# Altium schematic symbol library Connectors.SchLib: 57 symbols
Pins are listed as number, name and electrical type; pins without a type are passive.

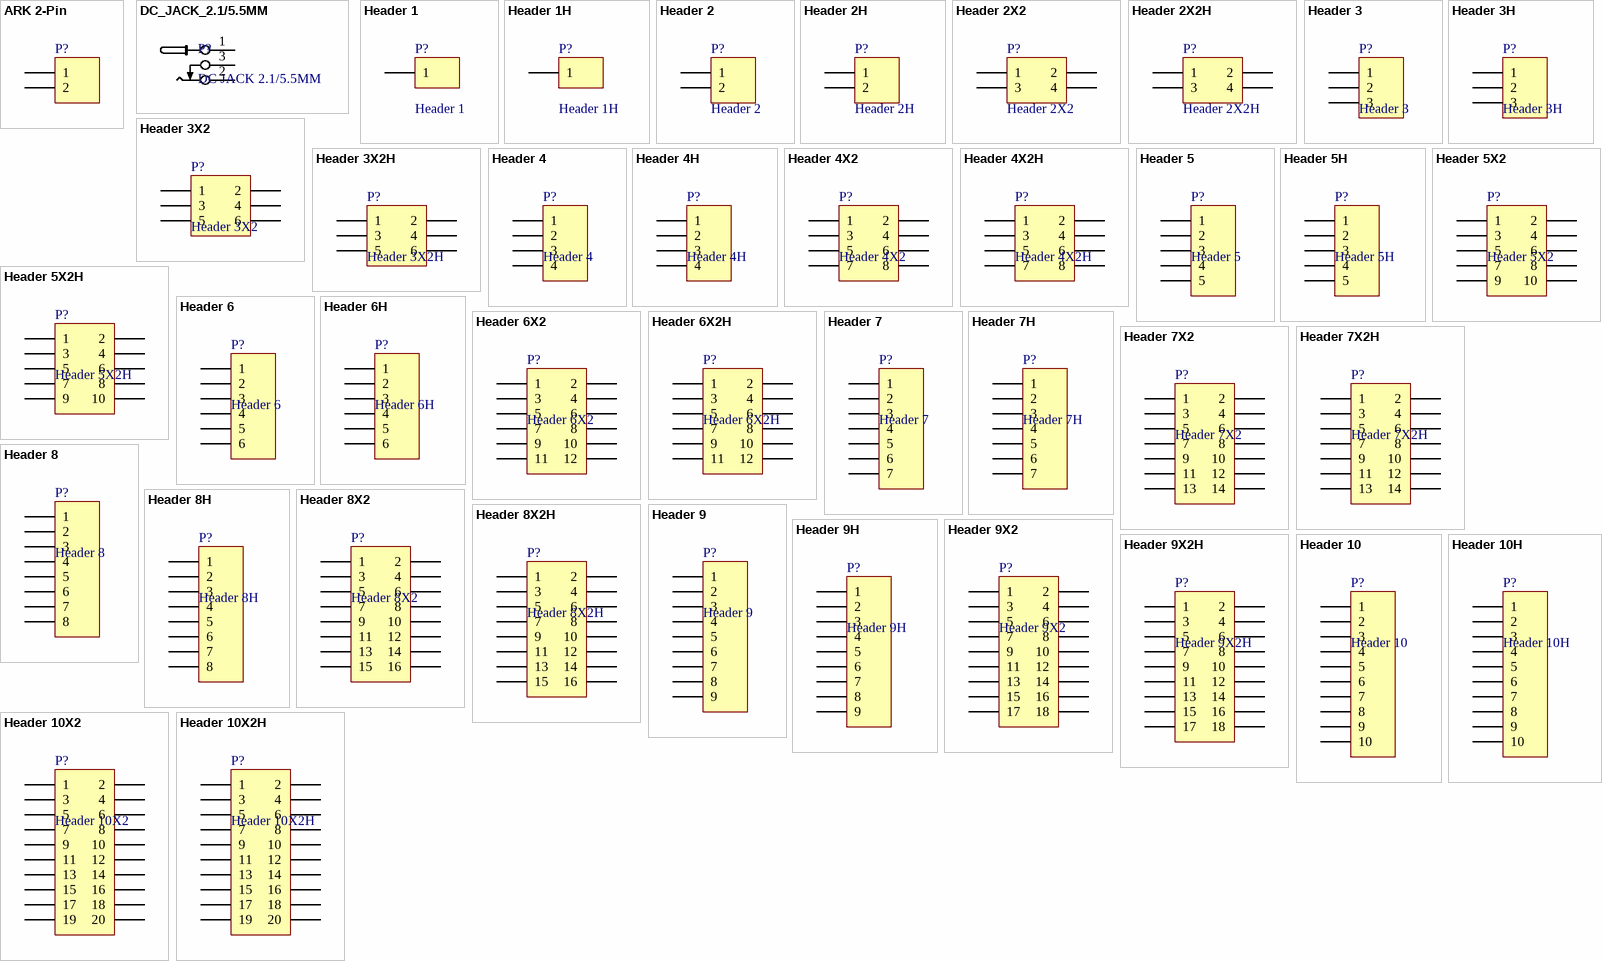
[diagram p0: symbols ARK 2-Pin to Header 10X2H]

## ARK 2-Pin
designator P?  (value not drawn)
footprint ARK-5mm-2pin
footprint ARK-3.5mm-2pin
pins: 1, 2

## DC_JACK_2.1/5.5MM
designator P?, comment DC JACK 2.1/5.5MM
footprint DC_JACK_2.1/5.5MM_THD
footprint DC_JACK_2.1/5.5MM_SMD
pins: 1 (power), 2 (power), 3 (power)

## Header 1
designator P?
Header, 1-Pin
footprint MA01-1
footprint MA01-1L
pins: 1

## Header 1H
designator P?
Header, 1-Pin, Right Angle
footprint MA01-1W
pins: 1

## Header 2
designator P?
Header, 2-Pin
footprint MA02-1
footprint MA02-1L
pins: 1, 2

## Header 2H
designator P?
Header, 2-Pin, Right Angle
footprint MA02-1W
footprint MA02-1WL
pins: 1, 2

## Header 2X2
designator P?
Header, 2-Pin, Dual row
footprint MA02-2
pins: 1, 2, 3, 4

## Header 2X2H
designator P?
Header, 2-Pin, Dual row, Right Angle
footprint MA02-2W
pins: 1, 2, 3, 4

## Header 3
designator P?
Header, 3-Pin
footprint MA03-1
footprint MA03-1L
pins: 1, 2, 3

## Header 3H
designator P?
Header, 3-Pin, Right Angle
footprint MA03-1W
footprint MA03-1WL
pins: 1, 2, 3

## Header 3X2
designator P?
Header, 3-Pin, Dual row
footprint MA03-2
pins: 1, 2, 3, 4, 5, 6

## Header 3X2H
designator P?
Header, 3-Pin, Dual row, Right Angle
footprint MA03-2W
pins: 1, 2, 3, 4, 5, 6

## Header 4
designator P?
Header, 4-Pin
footprint MA04-1
footprint MA04-1L
pins: 1, 2, 3, 4

## Header 4H
designator P?
Header, 4-Pin, Right Angle
footprint MA04-1W
footprint MA04-1WL
pins: 1, 2, 3, 4

## Header 4X2
designator P?
Header, 4-Pin, Dual row
footprint MA04-2
pins: 1, 2, 3, 4, 5, 6, 7, 8

## Header 4X2H
designator P?
Header, 4-Pin, Dual row, Right Angle
footprint MA04-2W
pins: 1, 2, 3, 4, 5, 6, 7, 8

## Header 5
designator P?
Header, 5-Pin
footprint MA05-1
footprint MA05-1L
pins: 1, 2, 3, 4, 5

## Header 5H
designator P?
Header, 5-Pin, Right Angle
footprint MA05-1W
footprint MA05-1WL
pins: 1, 2, 3, 4, 5

## Header 5X2
designator P?
Header, 5-Pin, Dual row
footprint MA05-2
pins: 1, 2, 3, 4, 5, 6, 7, 8, 9, 10

## Header 5X2H
designator P?
Header, 5-Pin, Dual row, Right Angle
footprint MA05-2W
pins: 1, 2, 3, 4, 5, 6, 7, 8, 9, 10

## Header 6
designator P?
Header, 6-Pin
footprint MA06-1
footprint MA06-1L
footprint MA06-1_2mm
pins: 1, 2, 3, 4, 5, 6

## Header 6H
designator P?
Header, 6-Pin, Right Angle
footprint MA06-1W
footprint MA06-1WL
pins: 1, 2, 3, 4, 5, 6

## Header 6X2
designator P?
Header, 6-Pin, Dual row
footprint MA06-2
pins: 1, 2, 3, 4, 5, 6, 7, 8, 9, 10, 11, 12

## Header 6X2H
designator P?
Header, 6-Pin, Dual row, Right Angle
footprint MA06-2W
pins: 1, 2, 3, 4, 5, 6, 7, 8, 9, 10, 11, 12

## Header 7
designator P?
Header, 7-Pin
footprint MA07-1
footprint MA07-1L
pins: 1, 2, 3, 4, 5, 6, 7

## Header 7H
designator P?
Header, 7-Pin, Right Angle
footprint MA07-1W
footprint MA07-1WL
pins: 1, 2, 3, 4, 5, 6, 7

## Header 7X2
designator P?
Header, 7-Pin, Dual row
footprint MA07-2
pins: 1, 2, 3, 4, 5, 6, 7, 8, 9, 10, 11, 12, 13, 14

## Header 7X2H
designator P?
Header, 7-Pin, Dual row, Right Angle
footprint MA07-2W
pins: 1, 2, 3, 4, 5, 6, 7, 8, 9, 10, 11, 12, 13, 14

## Header 8
designator P?
Header, 8-Pin
footprint MA08-1
footprint MA08-1L
pins: 1, 2, 3, 4, 5, 6, 7, 8

## Header 8H
designator P?
Header, 8-Pin, Right Angle
footprint MA08-1W
footprint MA08-1WL
pins: 1, 2, 3, 4, 5, 6, 7, 8

## Header 8X2
designator P?
Header, 8-Pin, Dual row
footprint MA08-2
pins: 1, 2, 3, 4, 5, 6, 7, 8, 9, 10, 11, 12, 13, 14, 15, 16

## Header 8X2H
designator P?
Header, 8-Pin, Dual row, Right Angle
footprint MA08-2W
pins: 1, 2, 3, 4, 5, 6, 7, 8, 9, 10, 11, 12, 13, 14, 15, 16

## Header 9
designator P?
Header, 9-Pin
footprint MA09-1
footprint MA09-1L
pins: 1, 2, 3, 4, 5, 6, 7, 8, 9

## Header 9H
designator P?
Header, 9-Pin, Right Angle
footprint MA09-1W
footprint MA09-1WL
pins: 1, 2, 3, 4, 5, 6, 7, 8, 9

## Header 9X2
designator P?
Header, 9-Pin, Dual row
footprint MA09-2
pins: 1, 2, 3, 4, 5, 6, 7, 8, 9, 10, 11, 12, 13, 14, 15, 16, 17, 18

## Header 9X2H
designator P?
Header, 9-Pin, Dual row, Right Angle
footprint MA09-2W
pins: 1, 2, 3, 4, 5, 6, 7, 8, 9, 10, 11, 12, 13, 14, 15, 16, 17, 18

## Header 10
designator P?
Header, 10-Pin
footprint MA10-1
footprint MA10-1L
pins: 1, 2, 3, 4, 5, 6, 7, 8, 9, 10

## Header 10H
designator P?
Header, 10-Pin, Right Angle
footprint MA10-1W
footprint MA10-1WL
pins: 1, 2, 3, 4, 5, 6, 7, 8, 9, 10

## Header 10X2
designator P?
Header, 10-Pin, Dual row
footprint MA10-2
pins: 1, 2, 3, 4, 5, 6, 7, 8, 9, 10, 11, 12, 13, 14, 15, 16, 17, 18, 19, 20

## Header 10X2H
designator P?
Header, 10-Pin, Dual row, Right Angle
footprint MA10-2W
pins: 1, 2, 3, 4, 5, 6, 7, 8, 9, 10, 11, 12, 13, 14, 15, 16, 17, 18, 19, 20

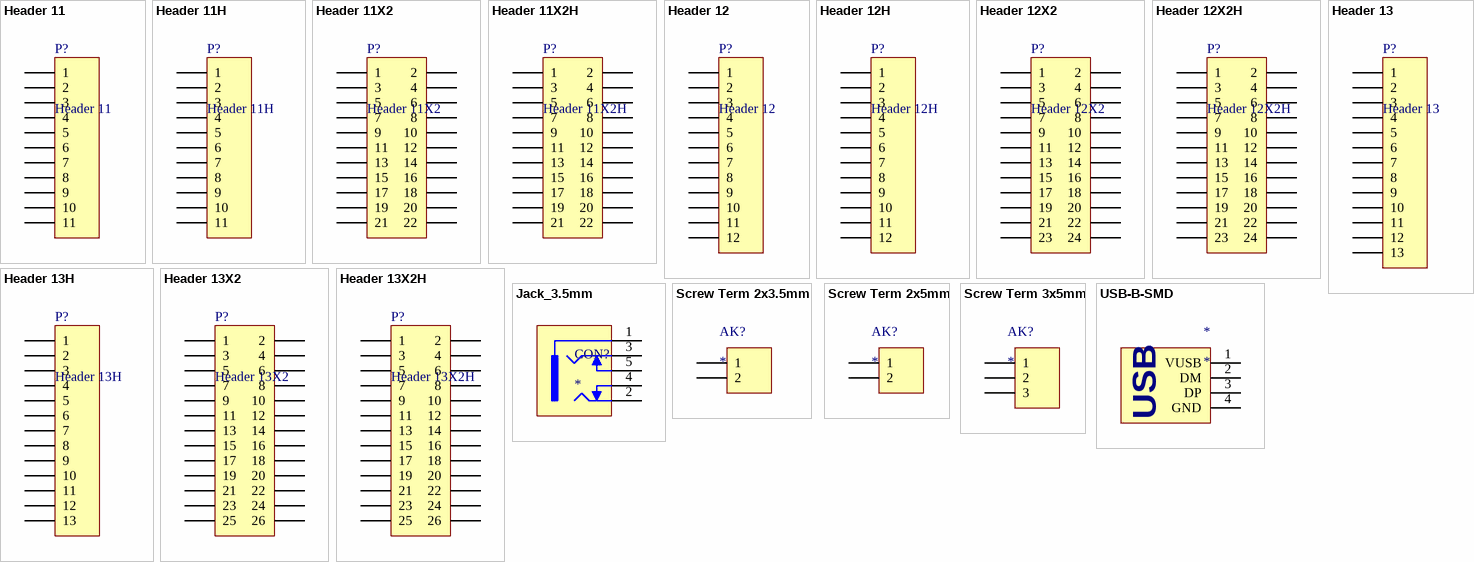
[diagram p1: symbols Header 11 to USB-B-SMD]

## Header 11
designator P?
Header, 11-Pin
footprint MA11-1
footprint MA11-1L
pins: 1, 2, 3, 4, 5, 6, 7, 8, 9, 10, 11

## Header 11H
designator P?
Header, 11-Pin, Right Angle
footprint MA11-1W
footprint MA11-1WL
pins: 1, 2, 3, 4, 5, 6, 7, 8, 9, 10, 11

## Header 11X2
designator P?
Header, 11-Pin, Dual row
footprint MA11-2
pins: 1, 2, 3, 4, 5, 6, 7, 8, 9, 10, 11, 12, 13, 14, 15, 16, 17, 18, 19, 20, 21, 22

## Header 11X2H
designator P?
Header, 11-Pin, Dual row, Right Angle
footprint MA11-2W
pins: 1, 2, 3, 4, 5, 6, 7, 8, 9, 10, 11, 12, 13, 14, 15, 16, 17, 18, 19, 20, 21, 22

## Header 12
designator P?
Header, 12-Pin
footprint MA12-1
footprint MA12-1L
pins: 1, 2, 3, 4, 5, 6, 7, 8, 9, 10, 11, 12

## Header 12H
designator P?
Header, 12-Pin, Right Angle
footprint MA12-1W
footprint MA12-1WL
pins: 1, 2, 3, 4, 5, 6, 7, 8, 9, 10, 11, 12

## Header 12X2
designator P?
Header, 12-Pin, Dual row
footprint MA12-2
pins: 1, 2, 3, 4, 5, 6, 7, 8, 9, 10, 11, 12, 13, 14, 15, 16, 17, 18, 19, 20, 21, 22, 23, 24

## Header 12X2H
designator P?
Header, 12-Pin, Dual row, Right Angle
footprint MA12-2W
pins: 1, 2, 3, 4, 5, 6, 7, 8, 9, 10, 11, 12, 13, 14, 15, 16, 17, 18, 19, 20, 21, 22, 23, 24

## Header 13
designator P?
Header, 13-Pin
footprint MA13-1
footprint MA13-1L
pins: 1, 2, 3, 4, 5, 6, 7, 8, 9, 10, 11, 12, 13

## Header 13H
designator P?
Header, 13-Pin, Right Angle
footprint MA13-1W
footprint MA13-1WL
pins: 1, 2, 3, 4, 5, 6, 7, 8, 9, 10, 11, 12, 13

## Header 13X2
designator P?
Header, 13-Pin, Dual row
footprint MA13-2
pins: 1, 2, 3, 4, 5, 6, 7, 8, 9, 10, 11, 12, 13, 14, 15, 16, 17, 18, 19, 20, 21, 22, 23, 24, 25, 26

## Header 13X2H
designator P?
Header, 13-Pin, Dual row, Right Angle
footprint MA13-2W
pins: 1, 2, 3, 4, 5, 6, 7, 8, 9, 10, 11, 12, 13, 14, 15, 16, 17, 18, 19, 20, 21, 22, 23, 24, 25, 26

## Jack_3.5mm
designator CON?
footprint Jack 3.5mm
pins: 1, 2, 3, 4, 5

## Screw Term 2x3.5mm
designator AK?
Screw Terminals  2-Pin, 3.5mm
footprint Screw_Term_2x3.5mm
pins: 1, 2

## Screw Term 2x5mm
designator AK?
Screw Terminals  2-Pin, 5mm
footprint Screw_Term_2x5mm
pins: 1, 2

## Screw Term 3x5mm
designator AK?
Screw Terminals  3-Pin, 5mm
footprint Screw_Term_3x5mm
pins: 1, 2, 3

## USB-B-SMD
designator *
footprint Micro_USB
pins: 1 VUSB (power), 2 DM, 3 DP, 4 GND (power)
text: USB